# EAGLE library part TMP100 (library texas-instruments)
Digital Temperature Sensor with I2C Interface
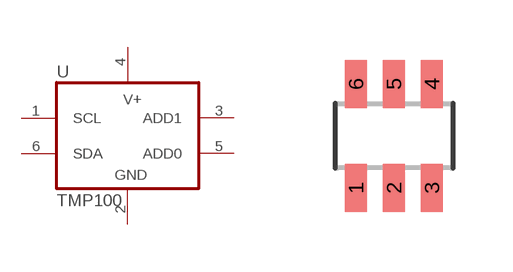
[diagram p3: symbol with the pads of SOT23-6; footprint SOT23-6]

Designator prefix U

## TMP100DBV (P1I: o)  [SOT23-6]
1  SCL
2  GND  pwr
3  ADD1  in
4  V+  pwr
5  ADD0  in
6  SDA

## Footprint SOT23-6 (pad centres in mm)
SOT-23 - DBV 0.95 mm pitch
smd 0.55 x 1.2: 1 -0.95,-1.3; 2 0,-1.3; 3 0.95,-1.3; 4 0.95,1.3; 5 0,1.3; 6 -0.95,1.3